# EAGLE library part MC33363ADWG (library ON Semiconductor_By_element14_Batch_1)
High Voltage Switching Regulator
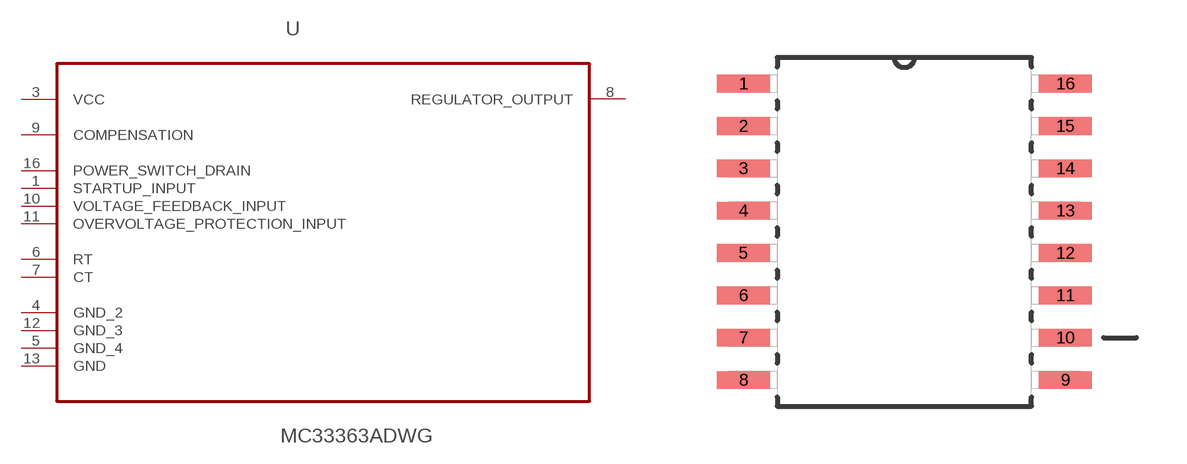
[diagram p378: symbol with the pads of SOIC127P1030X265-16N; footprint SOIC127P1030X265-16N]

Designator prefix U

## MC33363ADWG (MPN: MC33363ADWG; OC_FARNELL: 1136116; OC_NEWARK: 42K0622; P1I: o; PACKAGE: SOIC-16; SUPPLIER: On Semiconductor)  [SOIC127P1030X265-16N]
1  STARTUP_INPUT  in
3  VCC  pwr
4  GND_2  pas
5  GND_4  pas
6  RT  pas
7  CT  pas
8  REGULATOR_OUTPUT  out
9  COMPENSATION  in
10  VOLTAGE_FEEDBACK_INPUT  in
11  OVERVOLTAGE_PROTECTION_INPUT  in
12  GND_3  pas
13  GND  pas
16  POWER_SWITCH_DRAIN  pwr

## Footprint SOIC127P1030X265-16N (pad centres in mm)
smd 1.6 x 0.533: 1 -4.826,4.445; 2 -4.826,3.175; 3 -4.826,1.905; 4 -4.826,0.635; 5 -4.826,-0.635; 6 -4.826,-1.905; 7 -4.826,-3.175; 8 -4.826,-4.445; 9 4.826,-4.445; 10 4.826,-3.175; 11 4.826,-1.905; 12 4.826,-0.635; 13 4.826,0.635; 14 4.826,1.905; 15 4.826,3.175; 16 4.826,4.445